# Altium footprint library CAP_C5750X5R1A686M230KA.PcbLib: 1 footprints
Each footprint in its own frame and in the unit in brackets; x right, y up, seen from the top. Pads: shape width x height; smd on the part's side, far side on the other; paste and mask are expansions set on the pad; w line width, h text height; cw(c..) or ccw(c..) is an arc to the next point about the centre after c.
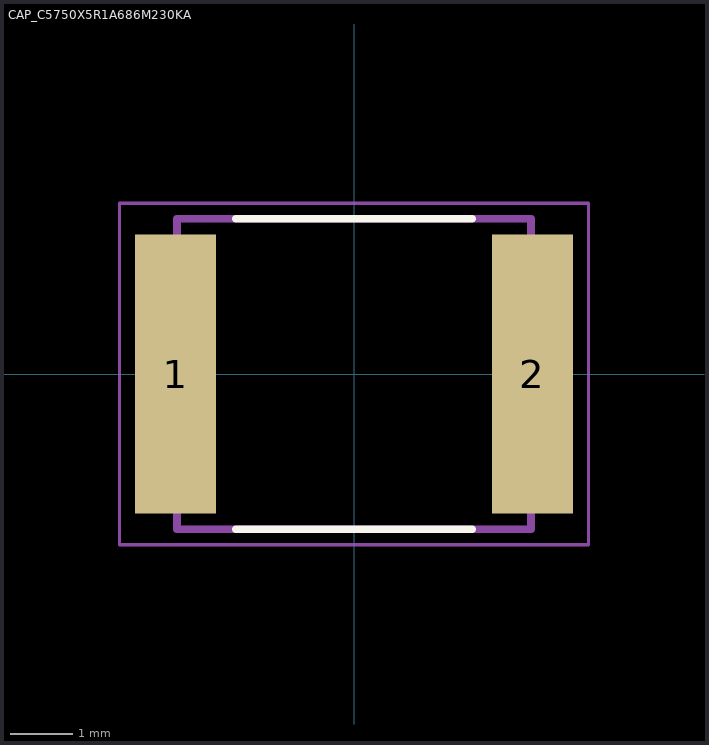
[diagram p0: the footprint, top view; thin cyan lines are the x and y axes]

## CAP_C5750X5R1A686M230KA [mm]
height 3.1
pads (2):
  rect 1.3x4.5 smd: 1(-2.875,0) 2(2.875,0)
Top Overlay:
  lines w0.127: -1.905,-2.5 1.905,-2.5 ; -1.905,2.5 1.905,2.5
Assembly Top:
  lines w0.127: -2.85,-2.5 2.85,-2.5 2.85,2.5 -2.85,2.5 -2.85,-2.5
Top Courtyard:
  lines w0.05: -3.775,-2.75 3.775,-2.75 3.775,2.75 -3.775,2.75 -3.775,-2.75